# Altium footprint library ARES_R30_Power.PcbLib: 67 footprints (part 1 of 5)
Each footprint in its own frame and in the unit in brackets; x right, y up, seen from the top. Pads: shape width x height; smd on the part's side, far side on the other; paste and mask are expansions set on the pad; w line width, h text height; cw(c..) or ccw(c..) is an arc to the next point about the centre after c.
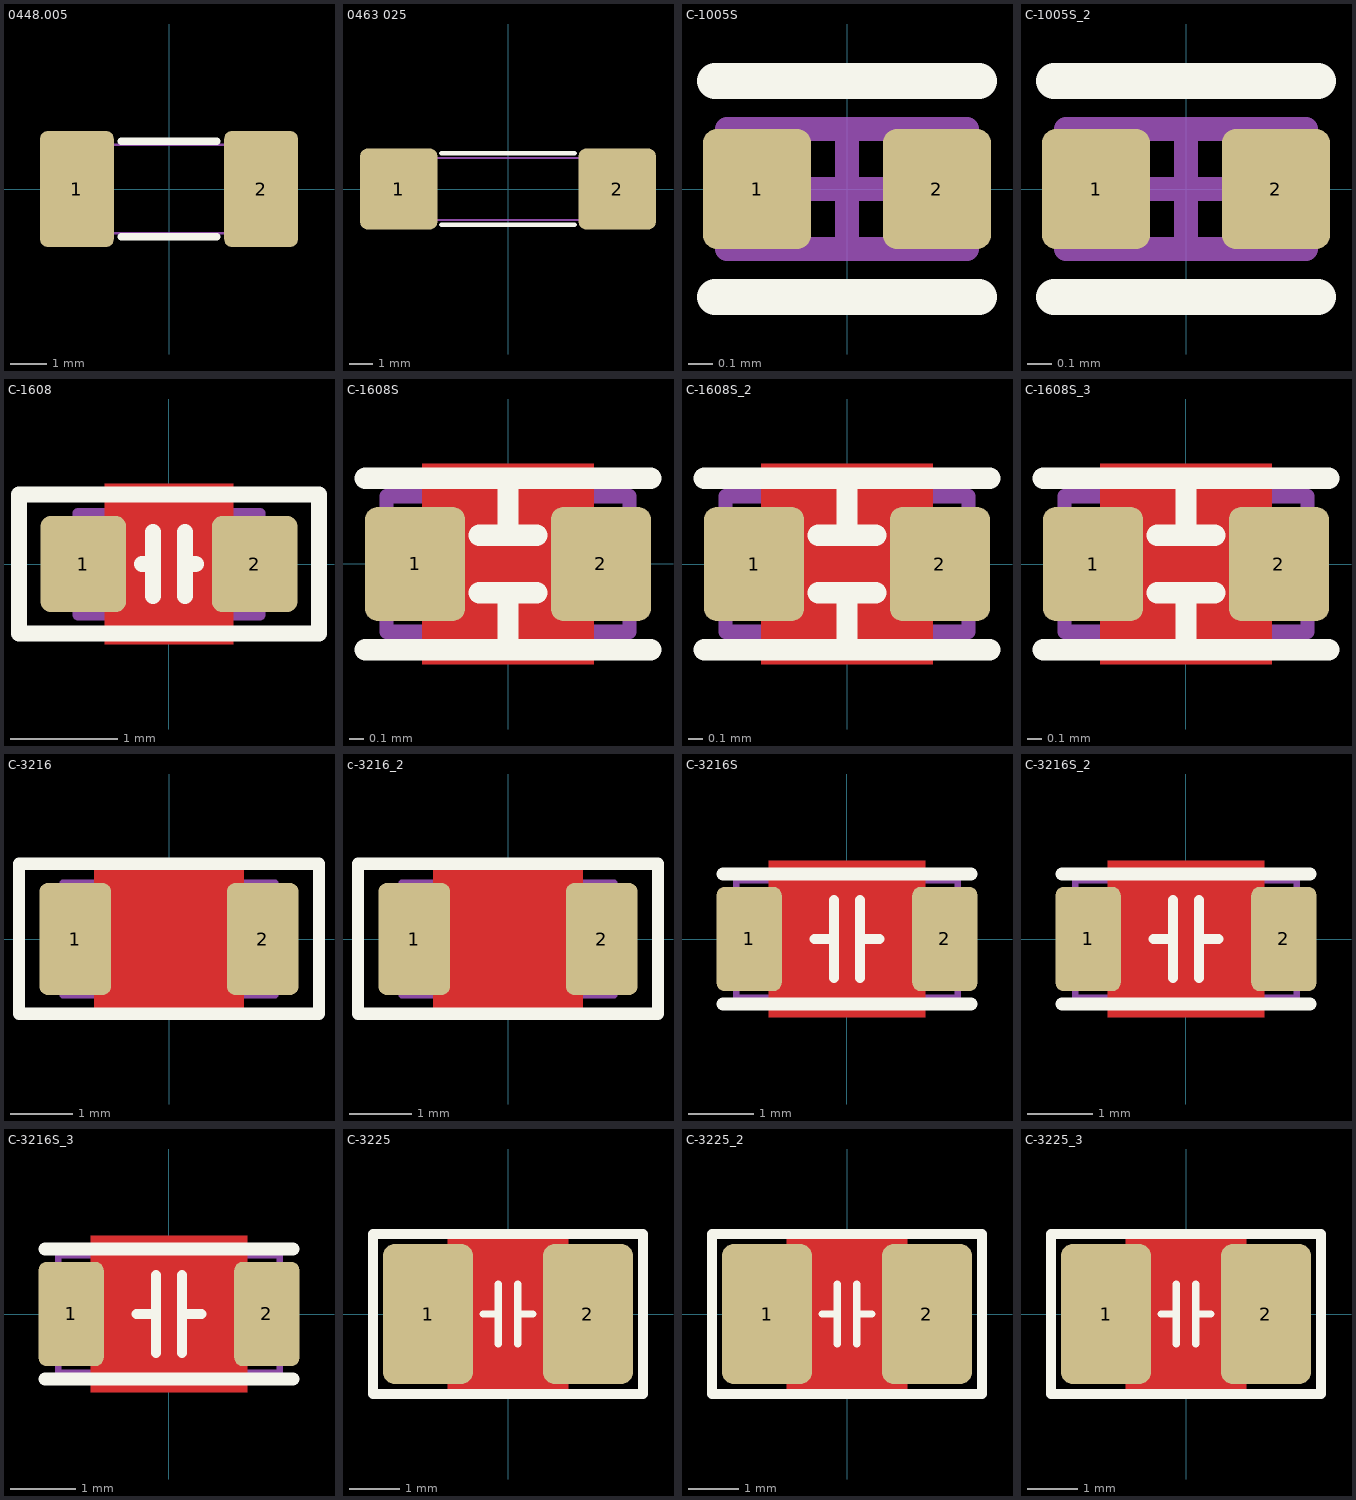
[diagram p0: the footprints below, top view; thin cyan lines are the x and y axes]

## 0448.005 [mm]
pads (2):
  rrect20% 2x3.15 smd: 1(-2.5,0) 2(2.5,0)
Top Overlay:
  lines w0.2: -1.3,-1.3 1.3,-1.3 ; -1.3,1.3 1.3,1.3
Mechanical 8:
  lines w0.075: -1.6,-1.2 1.6,-1.2 ; -1.6,1.2 1.6,1.2 ; -3.05,-1.35 -1.6,-1.35 -1.6,1.35 -3.05,1.35 -3.05,-1.35 ; 1.6,-1.35 3.05,-1.35 3.05,1.35 1.6,1.35 1.6,-1.35

## 0463 025 [mm]
pads (2):
  rrect20% 3.25x3.43 smd: 1(-4.6,0) 2(4.6,0)
Top Overlay:
  lines w0.2: -2.8,-1.5 2.8,-1.5 ; -2.8,1.5 2.8,1.5
Mechanical 8:
  lines w0.075: -3.35,-1.3 3.35,-1.3 ; -3.35,1.3 3.35,1.3 ; -5.05,-1.5 -5.05,1.5 -3.35,1.5 -3.35,-1.5 -5.05,-1.5 ; 3.35,-1.5 3.35,1.5 5.05,1.5 5.05,-1.5 3.35,-1.5

## C-1005S [mm] "0402 Chip Capacitor"
height 0.5
pads (2):
  rrect25% 0.45x0.5 smd: 1(-0.375,0) 2(0.375,0)
Top Overlay:
  lines w0.15: -0.55,-0.45 0.55,-0.45 ; -0.55,0.45 0.55,0.45
Mechanical 11:
  lines w0.1: -0.5,-0.25 -0.5,0.25 0.5,0.25 0.5,-0.25 -0.5,-0.25
Mechanical 15:
  lines w0.1: -0.25,0 0.25,0 ; 0,-0.25 0,0.25
3D body "User Library-SMD CAPACITOR 1005.step": height 0.5, standoff 0, extent -0.5,-0.25 0.5,0.25

## C-1005S_2 [mm]
pads (2):
  rrect25% 0.45x0.5 smd: 1(-0.375,0) 2(0.375,0)
Top Overlay:
  lines w0.15: -0.55,-0.45 0.55,-0.45 ; -0.55,0.45 0.55,0.45
Mechanical 11:
  lines w0.1: -0.5,-0.25 -0.5,0.25 0.5,0.25 0.5,-0.25 -0.5,-0.25
Mechanical 15:
  lines w0.1: -0.25,0 0.25,0 ; 0,-0.25 0,0.25
3D body "User Library-SMD CAPACITOR 1005.step": height 0.5, standoff 0, extent -0.5,-0.25 0.5,0.25

## C-1608 [mm] "0603 Chip Capacitor"
height 0.55
pads (2):
  rrect25% 0.8x0.9 smd: 1(-0.8,0) 2(0.8,0)
Top Layer:
  pour cut-out: -0.6,0.75 0.6,0.75 0.6,-0.75 -0.6,-0.75
Top Overlay:
  lines w0.15: -0.25,0 -0.15,0 ; -0.15,-0.3 -0.15,0.3 ; 0.15,-0.3 0.15,0.3 ; 0.15,0 0.25,0 ; -1.4,-0.65 1.4,-0.65 1.4,0.65 -1.4,0.65 -1.4,-0.65
Mechanical 11:
  lines w0.1: -0.85,-0.475 -0.85,0.475 0.85,0.475 0.85,-0.475 -0.85,-0.475
Mechanical 15:
  lines w0.1: -0.475,0 0.475,0 ; 0,-0.475 0,0.475
3D body "User Library-SMD CAPACITOR 1608.step": height 0.8, standoff 0, extent -0.8,-0.4 0.8,0.4

## C-1608S [mm] "0603 Chip Capacitor"
height 0.55
pads (2):
  rrect25% 0.7x0.8 smd: 1(-0.65,0) 2(0.65,0)
Top Layer:
  pour cut-out: -0.6,0.7 0.6,0.7 0.6,-0.7 -0.6,-0.7
Top Overlay:
  lines w0.15: -1,-0.6 1,-0.6 ; -1,0.6 1,0.6 ; -0.2,-0.2 0.2,-0.2 ; -0.2,0.2 0.2,0.2 ; 0,-0.6 0,-0.2 ; 0,0.2 0,0.6
Mechanical 11:
  lines w0.1: -0.85,-0.475 -0.85,0.475 0.85,0.475 0.85,-0.475 -0.85,-0.475
Mechanical 15:
  lines w0.1: -0.475,0 0.475,0 ; 0,-0.475 0,0.475
3D body "User Library-SMD CAPACITOR 1608.step": height 0.8, standoff 0, extent -0.8,-0.4 0.8,0.4

## C-1608S_2 [mm]
pads (2):
  rrect25% 0.7x0.8 smd: 1(-0.65,0) 2(0.65,0)
Top Layer:
  pour cut-out: -0.6,0.7 0.6,0.7 0.6,-0.7 -0.6,-0.7
Top Overlay:
  lines w0.15: -1,-0.6 1,-0.6 ; -1,0.6 1,0.6 ; -0.2,-0.2 0.2,-0.2 ; -0.2,0.2 0.2,0.2 ; 0,-0.6 0,-0.2 ; 0,0.2 0,0.6
Mechanical 11:
  lines w0.1: -0.85,-0.475 0.85,-0.475 0.85,0.475 -0.85,0.475 -0.85,-0.475
Mechanical 15:
  lines w0.1: -0.475,0 0.475,0 ; 0,-0.475 0,0.475
3D body "User Library-SMD CAPACITOR 1608.step": height 0.8, standoff 0, extent -0.8,-0.4 0.8,0.4

## C-1608S_3 [mm]
pads (2):
  rrect25% 0.7x0.8 smd: 1(-0.65,0) 2(0.65,0)
Top Layer:
  pour cut-out: -0.6,0.7 0.6,0.7 0.6,-0.7 -0.6,-0.7
Top Overlay:
  lines w0.15: -1,-0.6 1,-0.6 ; -1,0.6 1,0.6 ; -0.2,-0.2 0.2,-0.2 ; -0.2,0.2 0.2,0.2 ; 0,-0.6 0,-0.2 ; 0,0.2 0,0.6
Mechanical 11:
  lines w0.1: -0.85,-0.475 -0.85,0.475 0.85,0.475 0.85,-0.475 -0.85,-0.475
Mechanical 15:
  lines w0.1: -0.475,0 0.475,0 ; 0,-0.475 0,0.475
3D body "User Library-SMD CAPACITOR 1608.step": height 0.8, standoff 0, extent -0.8,-0.4 0.8,0.4

## C-3216 [mm] "1206 Chip Capacitor"
height 0.75
pads (2):
  rrect25% 1.15x1.8 smd: 1(-1.5,0) 2(1.5,0)
Top Layer:
  pour cut-out: -1.2,1.2 1.2,1.2 1.2,-1.2 -1.2,-1.2
Top Overlay:
  lines w0.2: -2.4,-1.2 -2.4,1.2 2.4,1.2 2.4,-1.2 -2.4,-1.2
Mechanical 11:
  lines w0.1: -1.7,-0.9 1.7,-0.9 1.7,0.9 -1.7,0.9 -1.7,-0.9
Mechanical 15:
  lines w0.1: -0.5,0 0.5,0 ; 0,-0.5 0,0.5
3D body "User Library-SMD CAPACITOR 3216.step": height 0.79, standoff 0.01, extent -1.6,-0.8 1.6,0.8

## c-3216_2 [mm]
pads (2):
  rrect25% 1.15x1.8 smd: 1(-1.5,0) 2(1.5,0)
Top Layer:
  pour cut-out: -1.2,1.2 1.2,1.2 1.2,-1.2 -1.2,-1.2
Top Overlay:
  lines w0.2: -2.4,-1.2 -2.4,1.2 2.4,1.2 2.4,-1.2 -2.4,-1.2
Mechanical 11:
  lines w0.1: -1.7,-0.9 1.7,-0.9 1.7,0.9 -1.7,0.9 -1.7,-0.9
Mechanical 15:
  lines w0.1: -0.5,0 0.5,0 ; 0,-0.5 0,0.5
3D body "User Library-SMD CAPACITOR 3216.step": height 0.79, standoff 0.01, extent -1.6,-0.8 1.6,0.8

## C-3216S [mm] "1206 Chip Capacitor"
height 0.75
pads (2):
  rrect25% 1x1.6 smd: 1(-1.5,0) 2(1.5,0)
Top Layer:
  pour cut-out: -1.2,1.2 1.2,1.2 1.2,-1.2 -1.2,-1.2
Top Overlay:
  lines w0.15: -0.5,0 -0.2,0 ; -0.2,-0.6 -0.2,0.6 ; 0.2,-0.6 0.2,0.6 ; 0.2,0 0.5,0
  lines w0.2: -1.9,-1 1.9,-1 ; -1.9,1 1.9,1
Mechanical 11:
  lines w0.1: -1.7,-0.9 1.7,-0.9 1.7,0.9 -1.7,0.9 -1.7,-0.9
Mechanical 15:
  lines w0.1: -0.5,0 0.5,0 ; 0,-0.5 0,0.5
3D body "User Library-SMD CAPACITOR 3216.step": height 0.79, standoff 0.01, extent -1.6,-0.8 1.6,0.8

## C-3216S_2 [mm]
pads (2):
  rrect25% 1x1.6 smd: 1(-1.5,0) 2(1.5,0)
Top Layer:
  pour cut-out: -1.2,1.2 1.2,1.2 1.2,-1.2 -1.2,-1.2
Top Overlay:
  lines w0.15: -0.5,0 -0.2,0 ; -0.2,-0.6 -0.2,0.6 ; 0.2,-0.6 0.2,0.6 ; 0.2,0 0.5,0
  lines w0.2: -1.9,-1 1.9,-1 ; -1.9,1 1.9,1
Mechanical 11:
  lines w0.1: -1.7,-0.9 -1.7,0.9 1.7,0.9 1.7,-0.9 -1.7,-0.9
Mechanical 15:
  lines w0.1: -0.5,0 0.5,0 ; 0,-0.5 0,0.5
3D body "User Library-SMD CAPACITOR 3216.step": height 0.79, standoff 0.01, extent -1.6,-0.8 1.6,0.8

## C-3216S_3 [mm]
pads (2):
  rrect25% 1x1.6 smd: 1(-1.5,0) 2(1.5,0)
Top Layer:
  pour cut-out: -1.2,1.2 1.2,1.2 1.2,-1.2 -1.2,-1.2
Top Overlay:
  lines w0.15: -0.5,0 -0.2,0 ; -0.2,-0.6 -0.2,0.6 ; 0.2,-0.6 0.2,0.6 ; 0.2,0 0.5,0
  lines w0.2: -1.9,-1 1.9,-1 ; -1.9,1 1.9,1
Mechanical 11:
  lines w0.1: -1.7,-0.9 -1.7,0.9 1.7,0.9 1.7,-0.9 -1.7,-0.9
Mechanical 15:
  lines w0.1: -0.5,0 0.5,0 ; 0,-0.5 0,0.5
3D body "User Library-SMD CAPACITOR 3216.step": height 0.79, standoff 0.01, extent -1.6,-0.8 1.6,0.8

## C-3225 [mm] "1210 Chip Capacitor"
height 2.7
pads (2):
  rrect25% 1.8x2.8 smd: 1(-1.6,0) 2(1.6,0)
Top Layer:
  pour cut-out: -1.2,1.7 1.2,1.7 1.2,-1.7 -1.2,-1.7
Top Overlay:
  lines w0.15: -0.5,0 -0.2,0 ; -0.2,-0.6 -0.2,0.6 ; 0.2,-0.6 0.2,0.6 ; 0.2,0 0.5,0
  lines w0.2: -2.7,-1.6 2.7,-1.6 2.7,1.6 -2.7,1.6 -2.7,-1.6
Mechanical 11:
  lines w0.1: -1.7,-1.35 -1.7,1.35 1.7,1.35 1.7,-1.35 -1.7,-1.35
Mechanical 15:
  lines w0.1: -0.5,0 0.5,0 ; 0,-0.5 0,0.5
3D body "User Library-SMD CAPACITOR 3225.step": height 0.77, standoff -0.01, extent -1.6,-1.25 1.6,1.25

## C-3225_2 [mm]
pads (2):
  rrect25% 1.8x2.8 smd: 1(-1.6,0) 2(1.6,0)
Top Layer:
  pour cut-out: -1.2,1.7 1.2,1.7 1.2,-1.7 -1.2,-1.7
Top Overlay:
  lines w0.15: -0.5,0 -0.2,0 ; -0.2,-0.6 -0.2,0.6 ; 0.2,-0.6 0.2,0.6 ; 0.2,0 0.5,0
  lines w0.2: -2.7,-1.6 2.7,-1.6 2.7,1.6 -2.7,1.6 -2.7,-1.6
Mechanical 11:
  lines w0.1: -1.7,-1.35 -1.7,1.35 1.7,1.35 1.7,-1.35 -1.7,-1.35
Mechanical 15:
  lines w0.1: -0.5,0 0.5,0 ; 0,-0.5 0,0.5
3D body "User Library-SMD CAPACITOR 3225.step": height 0.77, standoff -0.01, extent -1.6,-1.25 1.6,1.25

## C-3225_3 [mm]
pads (2):
  rrect25% 1.8x2.8 smd: 1(-1.6,0) 2(1.6,0)
Top Layer:
  pour cut-out: -1.2,1.7 1.2,1.7 1.2,-1.7 -1.2,-1.7
Top Overlay:
  lines w0.15: -0.5,0 -0.2,0 ; -0.2,-0.6 -0.2,0.6 ; 0.2,-0.6 0.2,0.6 ; 0.2,0 0.5,0
  lines w0.2: -2.7,-1.6 2.7,-1.6 2.7,1.6 -2.7,1.6 -2.7,-1.6
Mechanical 11:
  lines w0.1: -1.7,-1.35 -1.7,1.35 1.7,1.35 1.7,-1.35 -1.7,-1.35
Mechanical 15:
  lines w0.1: -0.5,0 0.5,0 ; 0,-0.5 0,0.5
3D body "User Library-SMD CAPACITOR 3225.step": height 0.77, standoff -0.01, extent -1.6,-1.25 1.6,1.25